# Altium schematic symbol library Schlib1.SchLib: 6 symbols
Pins are listed as number, name and electrical type; pins without a type are passive.

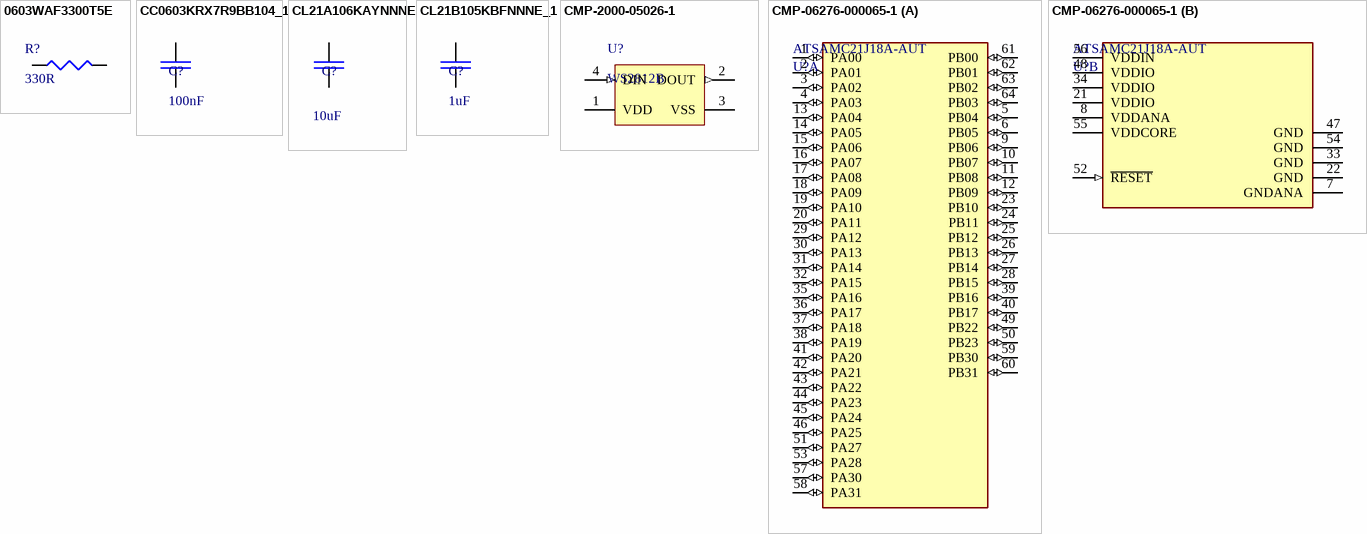
[diagram p0: symbols 0603WAF3300T5E to CMP-06276-000065-1]

## 0603WAF3300T5E
designator R?, comment 330R
CHIP RESISTOR - SURFACE MOUNT 330OHMS ±1% 1/10W 0603 ROHS; Value: 330R; LCSC Part #: C23138
footprint RESC1608X06M (Chip Resistor, 2-Leads, Body 1.60x0.80mm, IPC Low Density)
pins: 1, 2

## CC0603KRX7R9BB104_1
designator C?, comment 100nF
MULTILAYER CERAMIC CAPACITORS MLCC - SMD/SMT 100NF 50V 0603 ROHS; Value: 100nF; LCSC Part #: C14663
footprint CAPC1608X09M (Chip Capacitor, 2-Leads, Body 1.60x0.80mm, IPC Low Density)
pins: 1, 2

## CL21A106KAYNNNE
designator C?, comment 10uF
MULTILAYER CERAMIC CAPACITORS MLCC - SMD/SMT 10UF 25V 0805 ROHS; LCSC Part #: C15850; Value: 10uF
footprint CAPC2012X14M (Chip Capacitor 0805, 2-Leads, Body 2.00x1.25mm, IPC Low Density)
pins: 1, 2

## CL21B105KBFNNNE_1
designator C?, comment 1uF
MULTILAYER CERAMIC CAPACITORS MLCC - SMD/SMT 1UF 50V 0805 ROHS; Value: 1uF; LCSC Part #: C28323
footprint CAPC2012X14M (Chip Capacitor 0805, 2-Leads, Body 2.00x1.25mm, IPC Low Density)
pins: 1, 2

## CMP-2000-05026-1
designator U?, comment WS2812B
Intelligent Control LED Integrated Light Source, 3.5 to 5.3 V, -25 to 80 degC, 4-Pin SMD, RoHS, Tape and Reel; Manufacturer: Adafruit-Industries-LLC; Number of LEDs: 10; Configuration: Discrete; Utilized LED: WS2812(5050); Datasheet URL: http://datasheet.octopart.com/ADA1655-Adafruit-Industries-datasheet-32028139.pdf; Series: Neopixel; Interface: -; Package Description: 4-Pin Surface Mount Device, Body 5 x 5 mm; Color: Red,Green,Blue(RGB); Category: Optoelectronics; Controller Type: -; Package Reference: 1655; Manufacturer URL: https://www.adafruit.com/; Mounting Type: SurfaceMount; Datasheet Version: May-13; Size / Dimension: 5.00mmLx5.00mmW; Family: Addressable,Specialty; LCSC Part #: C114586
footprint LED5050 (SMD, 4-Leads, Body 5x5mm)
pins: 1 VDD (power), 2 DOUT (out), 3 VSS (power), 4 DIN (in)

## CMP-06276-000065-1
designator U?, comment ATSAMC21J18A-AUT
IC MCU 32BIT 256KB FLASH 64TQFP; Interface: I2C; Peripherals: Brown-out Detect/Reset; Number of I/Os: 52; Oscillator Type: Internal; Core Architecture: ARM; Frequency: 48MHz; Memory Type: FLASH; Min Operating Temperature: -40°C; Memory Size: 256KB; Case/Package: TQFP; Packaging: Cut Tape; Max Operating Temperature: 85°C
footprint PQFN50P900X900X100_HS-65N (PQFN, 64-Leads, Body 9.00x9.00mm, Pitch 0.50mm, Thermal Pad 4.70x4.70mm, IPC Medium Density)
footprint TQFP64 (TSQFP, 64-Leads, Body 10.00x10.00mm, Pitch 0.50mm, IPC Low Density)
part A pins: 1 PA00 (io), 2 PA01 (io), 3 PA02 (io), 4 PA03 (io), 5 PB04 (io), 6 PB05 (io), 9 PB06 (io), 10 PB07 (io), 11 PB08 (io), 12 PB09 (io), 13 PA04 (io), 14 PA05 (io), 15 PA06 (io), 16 PA07 (io), 17 PA08 (io), 18 PA09 (io), 19 PA10 (io), 20 PA11 (io), 23 PB10 (io), 24 PB11 (io), 25 PB12 (io), 26 PB13 (io), 27 PB14 (io), 28 PB15 (io), 29 PA12 (io), 30 PA13 (io), 31 PA14 (io), 32 PA15 (io), 35 PA16 (io), 36 PA17 (io), 37 PA18 (io), 38 PA19 (io), 39 PB16 (io), 40 PB17 (io), 41 PA20 (io), 42 PA21 (io), 43 PA22 (io), 44 PA23 (io), 45 PA24 (io), 46 PA25 (io), 49 PB22 (io), 50 PB23 (io), 51 PA27 (io), 53 PA28 (io), 57 PA30 (io), 58 PA31 (io), 59 PB30 (io), 60 PB31 (io), 61 PB00 (io), 62 PB01 (io), 63 PB02 (io), 64 PB03 (io)
part B pins: 7 GNDANA (power), 8 VDDANA (power), 21 VDDIO (power), 22 GND (power), 33 GND (power), 34 VDDIO (power), 47 GND (power), 48 VDDIO (power), 52 ~{RESET} (in), 54 GND (power), 55 VDDCORE (power), 56 VDDIN (power)